# Altium footprint library PE-54044SNL.PcbLib: 1 footprints
Each footprint in its own frame and in the unit in brackets; x right, y up, seen from the top. Pads: shape width x height; smd on the part's side, far side on the other; paste and mask are expansions set on the pad; w line width, h text height; cw(c..) or ccw(c..) is an arc to the next point about the centre after c.
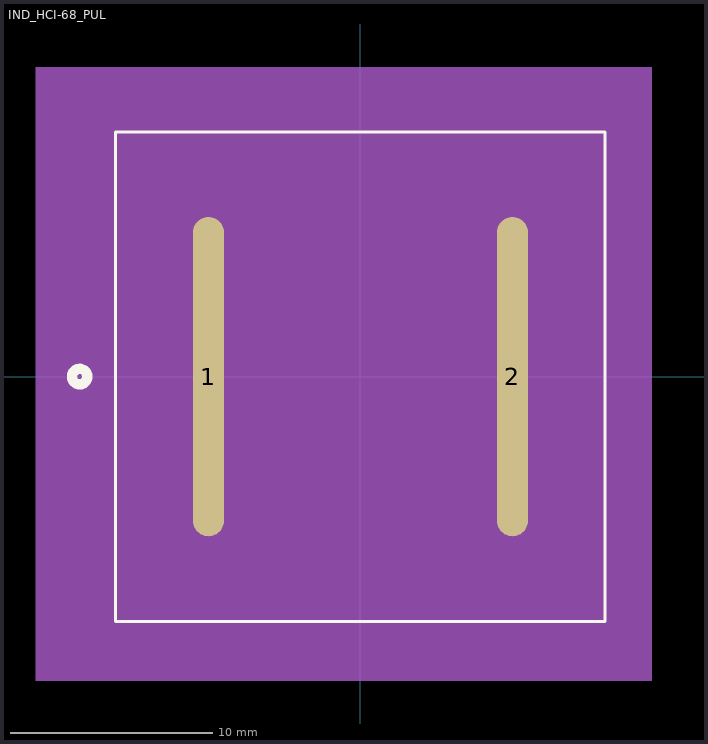
[diagram p0: the footprint, top view; thin cyan lines are the x and y axes]

## IND_HCI-68_PUL [mil]
pads (2):
  oval 60x620 smd paste+0 mask+0: 1(-295,0) 2(295,0)
Top Overlay:
  circle w20: c-545,0 r15
  lines w6: -475,-475 -475,475 475,475 475,-475 -475,-475
Bottom Overlay:
  circle w20: c-545,0 r15
Mechanical 5:
  region: -630,600 565,600 565,-590 -630,-590
Mechanical 13:
  circle w20: c-415,75 r15
  lines w1: -470,-470 -470,470 470,470 470,-470 -470,-470
Mechanical 15:
  region: 480,480 -480,480 -480,-480 480,-480
  lines w6: -480,-480 -480,480 480,480 480,-480 -480,-480
3D body: height 10, standoff 0, extent 0,0 10,10